# Altium footprint library PAL.PcbLib: 271 footprints (part 2 of 17)
Each footprint in its own frame and in the unit in brackets; x right, y up, seen from the top. Pads: shape width x height; smd on the part's side, far side on the other; paste and mask are expansions set on the pad; w line width, h text height; cw(c..) or ccw(c..) is an arc to the next point about the centre after c.
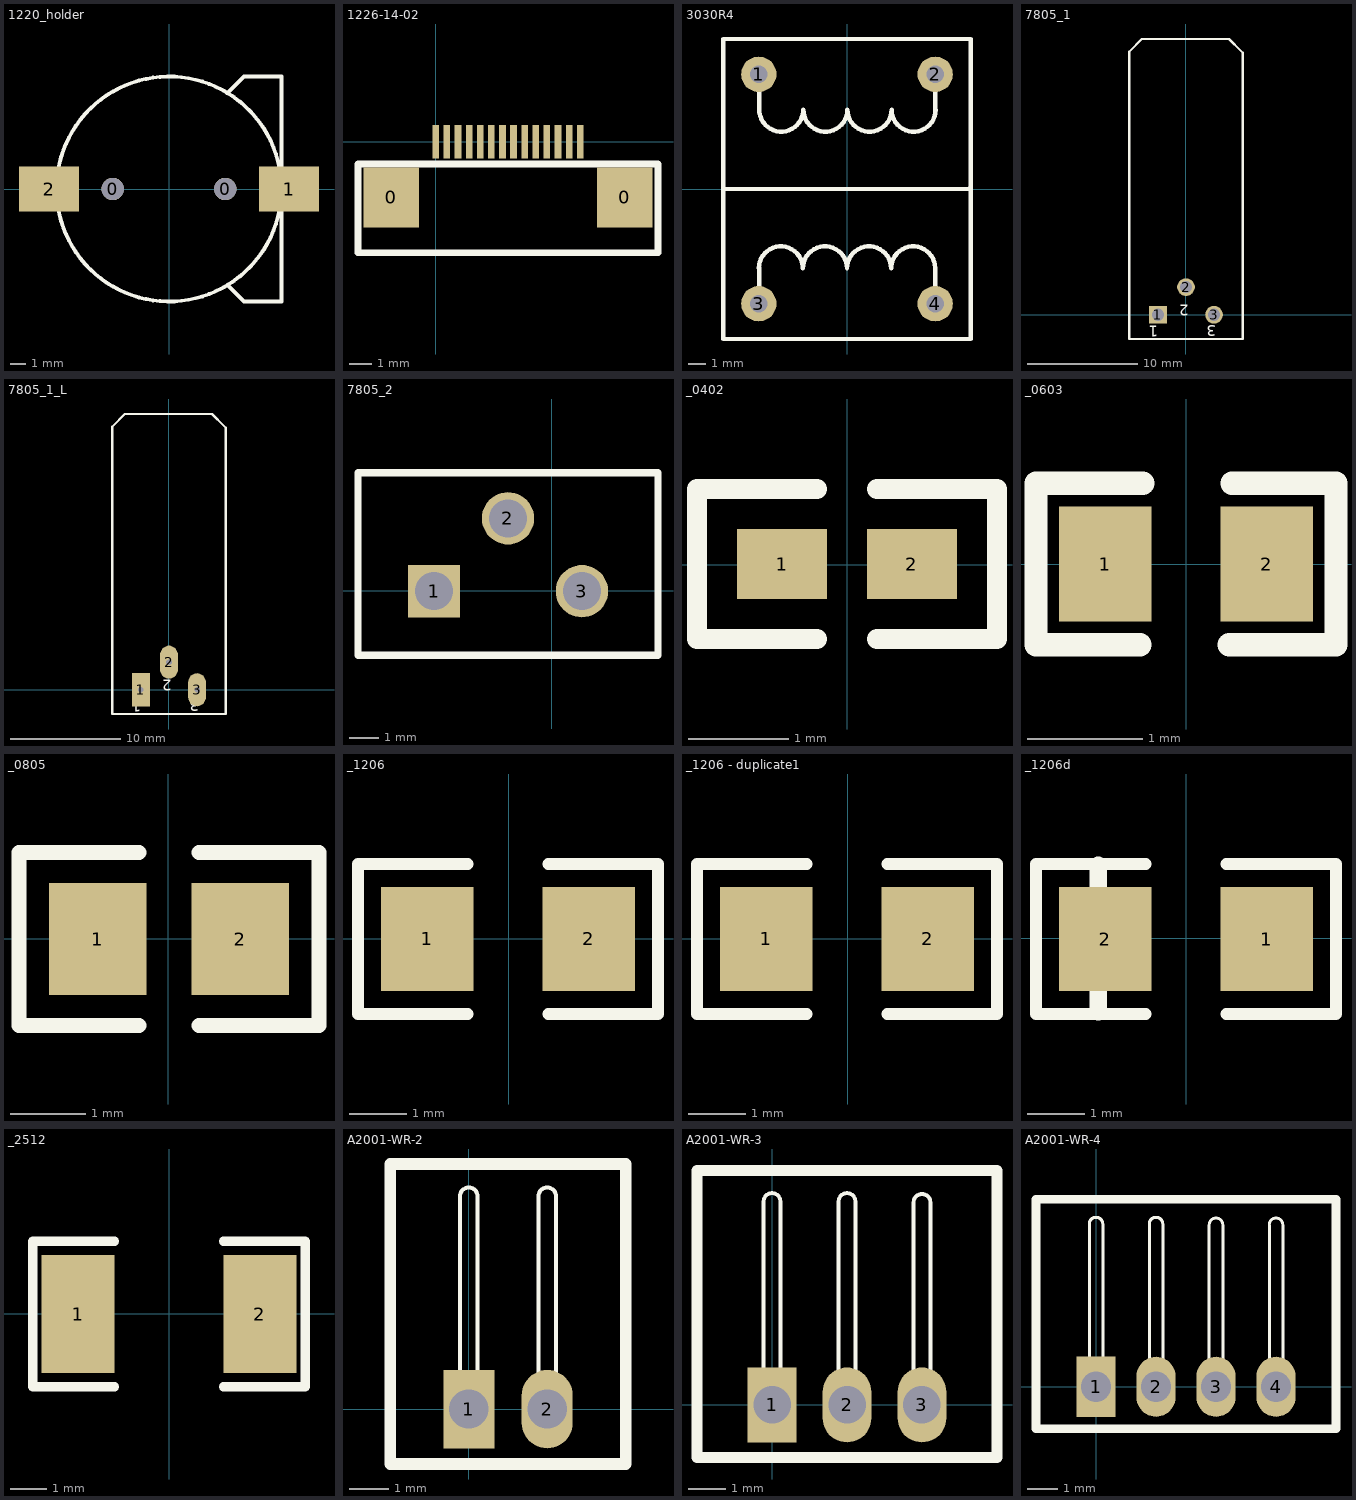
[diagram p1: the footprints below, top view; thin cyan lines are the x and y axes]

## 1220_holder [mm]
pads (4):
  round 1.5 on Top hole 1.5: 0(-3.75,0) 0(3.75,0)
  rect 4x3 smd: 1(8,0) 2(-8,0)
Top Overlay:
  circle w0.254: c0,0 r7.5
  lines w0.254: 3.875,6.4 3.9,6.4 5,7.5 7.5,7.5 7.5,0.025 7.525,0 ; 3.9,-6.4 5,-7.5 7.5,-7.5 7.5,-0.025

## 1226-14-02 [mm]
pads (16):
  rect 2.5x2.7 smd: 0(-2,-2.5) 0(8.5,-2.5)
  rect 0.3x1.5 smd: 1(0,0) 2(0.5,0) 3(1,0) 4(1.5,0) 5(2,0) 6(2.5,0) 7(3,0) 8(3.5,0) 9(4,0) 10(4.5,0) 11(5,0) 12(5.5,0) 13(6,0) 14(6.5,0)
Top Overlay:
  lines w0.3: -3.5,-5 -3.5,-1 10,-1 10,-5 -3.5,-5

## 3030R4 [mm]
pads (4):
  round 2 on Top hole 1: 1(-5,6.5) 2(5,6.5) 3(-5,-6.5) 4(5,-6.5)
Top Overlay:
  lines w0.254: -6.925,0 6.9,0 6.975,0.075 ; -5,-4.5 cw(c-3.75,-4.5) -2.5,-4.5 cw(c-1.25,-4.5) 0,-4.5 cw(c1.25,-4.5) 2.5,-4.5 cw(c3.75,-4.5) 5,-4.5 ; -4.975,-6.525 -4.975,-4.425 ; -4.975,4.475 -4.975,6.475 -4.95,6.5 ; -4.975,4.5 ccw(c-3.725,4.5) -2.475,4.5 ccw(c-1.225,4.5) 0.025,4.5 ccw(c1.275,4.5) 2.525,4.5 ccw(c3.775,4.5) 5.025,4.5 ; 5,-6.475 5,-4.475 ; 5,4.425 5,6.525 ; -7,-8.5 7,-8.5 7,8.5 -7,8.5 -7,-8.5

## 7805_1 [mm]
pads (3):
  rect 1.6x1.6 on Top hole 1.1: 1(-2.538,-0.011)
  round 1.6 on Top hole 1.1: 2(0.002,2.489) 3(2.542,-0.011)
Top Overlay:
  lines w0.2: 5.152,2.489 5.152,23.739 5.002,23.889 3.902,24.989 -3.998,24.989 -5.148,23.839 -5.148,2.689 -5.148,-2.211 5.152,-2.211 5.152,2.689
  text "1" at -2.498,-1.011 h1
  text "2" at 0.252,0.889 h1
  text "3" at 2.752,-0.961 h1

## 7805_1_L [mm]
pads (3):
  rect 1.6x3 on Top hole 0.5: 1(-2.538,-0.011)
  oval 1.6x3 on Top hole 0.5: 2(0.002,2.489) 3(2.542,-0.011)
Top Overlay:
  lines w0.2: 5.152,2.489 5.152,23.739 5.002,23.889 3.902,24.989 -3.998,24.989 -5.148,23.839 -5.148,2.689 -5.148,-2.211 5.152,-2.211 5.152,2.689
  text "1" at -2.498,-1.011 h1
  text "2" at 0.252,0.889 h1
  text "3" at 2.752,-0.961 h1

## 7805_2 [mm]
pads (3):
  rect 1.8x1.8 on Top hole 1.3: 1(-4.042,-0.011)
  round 1.8 on Top hole 1.3: 2(-1.502,2.489) 3(1.038,-0.011)
Top Overlay:
  lines w0.2: -6.652,2.689 -6.652,-2.211 3.648,-2.211 3.648,2.689
  lines w0.254: -6.652,-2.211 3.648,-2.211 3.648,4.053 -6.652,4.053 -6.652,-2.211 ; -6.652,-2.211 -6.652,-2.211

## _0402 [mm]
pads (2):
  rect 0.9x0.7 smd: 1(-0.651,0.007) 2(0.649,0.007)
Top Overlay:
  lines w0.2: -0.301,-0.743 -1.501,-0.743 -1.501,0.757 -0.301,0.757 ; 0.299,-0.743 1.499,-0.743 1.499,0.757 0.299,0.757

## _0603 [mm]
pads (2):
  rect 0.8x1 smd: 1(-0.7,0) 2(0.7,0)
Top Overlay:
  lines w0.2: -0.4,-0.7 -1.3,-0.7 -1.3,0.7 -0.375,0.7 ; 0.375,-0.7 1.3,-0.7 1.3,0.7 0.4,0.7

## _0805 [mm]
pads (2):
  rect 1.3x1.5 smd: 1(-0.942,-0.005) 2(0.958,-0.005)
Top Overlay:
  lines w0.2: -0.392,-1.155 -1.992,-1.155 -1.992,1.145 -0.392,1.145 ; 0.408,-1.155 2.008,-1.155 2.008,1.145 0.408,1.145

## _1206 [mm]
pads (2):
  rect 1.6x1.8 smd: 1(-1.412,-0.007) 2(1.388,-0.007)
Top Overlay:
  lines w0.2: -0.712,-1.307 -2.612,-1.307 -2.612,1.293 -0.712,1.293 ; 0.688,-1.307 2.588,-1.307 2.588,1.293 0.688,1.293

## _1206 - duplicate1 [mm]
pads (2):
  rect 1.6x1.8 smd: 1(-1.412,-0.007) 2(1.388,-0.007)
Top Overlay:
  lines w0.2: -0.712,-1.307 -2.612,-1.307 -2.612,1.293 -0.712,1.293 ; 0.688,-1.307 2.588,-1.307 2.588,1.293 0.688,1.293

## _1206d [mm]
pads (2):
  rect 1.6x1.8 smd: 1(1.395,-0.009) 2(-1.405,-0.009)
Top Overlay:
  lines w0.2: -0.705,-1.309 -2.605,-1.309 -2.605,1.291 -0.705,1.291 ; 0.695,-1.309 2.595,-1.309 2.595,1.291 0.695,1.291
  lines w0.3: -1.524,-1.27 -1.524,1.27

## _2512 [mm]
pads (2):
  rect 2x3.25 smd: 1(-2.501,-0.008) 2(2.499,-0.008)
Top Overlay:
  lines w0.254: -1.501,-2.008 -3.751,-2.008 -3.751,1.992 -1.501,1.992 ; 1.499,-2.008 3.749,-2.008 3.749,1.992 1.499,1.992

## A2001-WR-2 [mm]
pads (2):
  rect 1.3x2 on Top hole 1: 1(0,0)
  oval 1.3x2 on Top hole 1: 2(2,0)
Top Overlay:
  lines w0.1: -0.225,0.025 -0.225,5.425 cw(c0,5.425) 0,5.65 cw(c0,5.425) 0.225,5.425 0.225,0.025 ccw(c0.25,0.025) 0.25,0 ; 1.775,0.025 1.775,5.425 cw(c2,5.425) 2,5.65 cw(c2,5.425) 2.225,5.425 2.225,0.025
  lines w0.3: -2,-1.4 -2,6.25 4,6.25 4,-1.4 -2,-1.4

## A2001-WR-3 [mm]
pads (3):
  rect 1.3x2 on Top hole 1: 1(0,0)
  oval 1.3x2 on Top hole 1: 2(2,0) 3(4,0)
Top Overlay:
  lines w0.1: -0.225,0.025 -0.225,5.425 cw(c0,5.425) 0,5.65 cw(c0,5.425) 0.225,5.425 0.225,0.025 ccw(c0.25,0.025) 0.25,0 ; 1.775,0.025 1.775,5.425 cw(c2,5.425) 2,5.65 cw(c2,5.425) 2.225,5.425 2.225,0.025 ; 3.775,0 3.775,5.4 cw(c4,5.4) 4,5.625 cw(c4,5.4) 4.225,5.4 4.225,0
  lines w0.3: -2,-1.4 -2,6.25 6,6.25 6,-1.4 -2,-1.4

## A2001-WR-4 [mm]
pads (4):
  rect 1.3x2 on Top hole 1: 1(0,0)
  oval 1.3x2 on Top hole 1: 2(2,0) 3(4,0) 4(6,0)
Top Overlay:
  lines w0.1: -0.225,0.025 -0.225,5.425 cw(c0,5.425) 0,5.65 cw(c0,5.425) 0.225,5.425 0.225,0.025 ccw(c0.25,0.025) 0.25,0 ; 1.775,0.025 1.775,5.425 cw(c2,5.425) 2,5.65 cw(c2,5.425) 2.225,5.425 2.225,0.025 ; 3.775,0 3.775,5.4 cw(c4,5.4) 4,5.625 cw(c4,5.4) 4.225,5.4 4.225,0 ; 5.775,0 5.775,5.4 cw(c6,5.4) 6,5.625 cw(c6,5.4) 6.225,5.4 6.225,0
  lines w0.3: -2,-1.4 8,-1.4 8,6.25 -2,6.25 -2,-1.4